# EAGLE library part FUSE-G (library fuse)
CLASS-G FUSE For Schurter clips 0751.0506
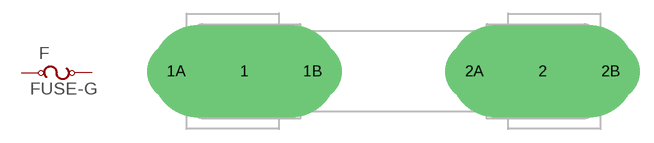
[diagram p0: symbol with the pads of FUSE-G; footprint FUSE-G]

Designator prefix F

## FUSE-G  [FUSE-G]
1  1  pas
1A  1A  pas
1B  1B  pas
2  2  pas
2A  2A  pas
2B  2B  pas

## Footprint FUSE-G (pad centres in mm)
CLASS-G FUSE HOLDER CLIPS Fuse Clips: Schurter part# 0751.0506
drill 3.81 pad 10.16 long: 1 -16.4,0; 2 16.4,0
drill 2.54 pad 6.452: 1A -23.9,0; 1B -8.9,0; 2A 8.9,0; 2B 23.9,0